# EAGLE library part NPN-DARLINGTON-ARRAY- (library Transistor_2)
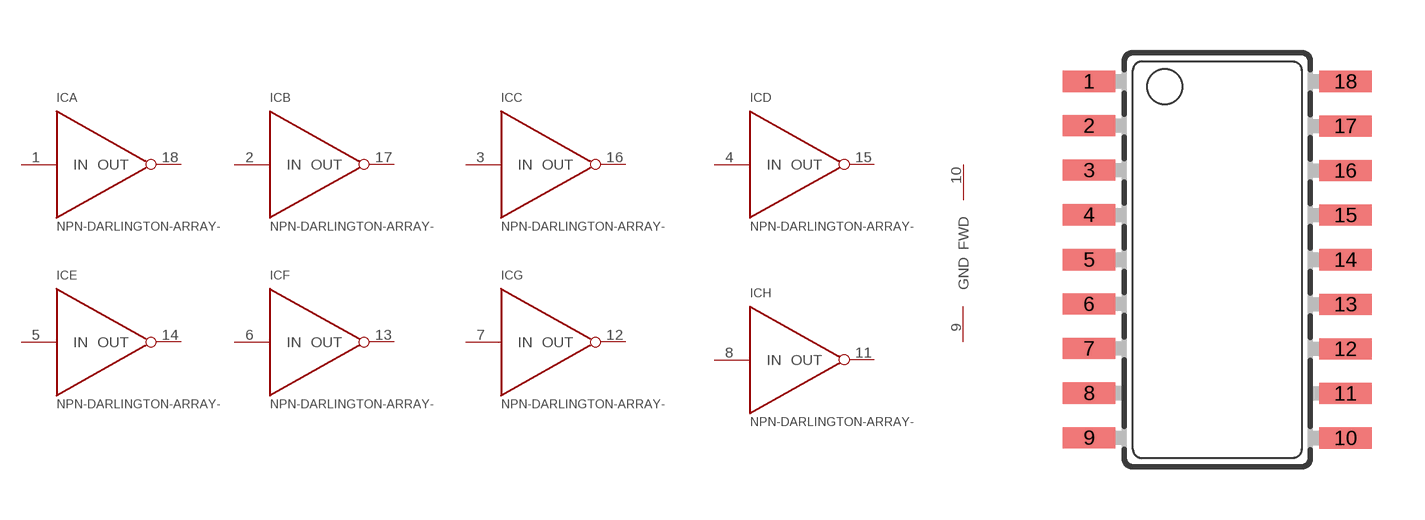
[diagram p0: symbol with the pads of SOP18; footprint SOP18]

Designator prefix IC; gates A=NEGATION B=NEGATION C=NEGATION D=NEGATION E=NEGATION F=NEGATION G=NEGATION H=NEGATION G$1=GND_WHEEL

## NPN-DARLINGTON-ARRAY-ULN2803D  [SOP18]
1  A:IN
2  B:IN
3  C:IN
4  D:IN
5  E:IN
6  F:IN
7  G:IN
8  H:IN
9  G$1:GND
10  G$1:FWD
11  H:OUT
12  G:OUT
13  F:OUT
14  E:OUT
15  D:OUT
16  C:OUT
17  B:OUT
18  A:OUT

## Footprint SOP18 (pad centres in mm)
smd 1.5 x 0.6: 1 -3.65,5.08; 2 -3.65,3.82; 3 -3.65,2.55; 4 -3.65,1.28; 5 -3.65,0; 6 -3.65,-1.26; 7 -3.65,-2.53; 8 -3.65,-3.8; 9 -3.65,-5.07; 10 3.65,-5.08; 11 3.65,-3.81; 12 3.65,-2.54; 13 3.65,-1.27; 14 3.65,0; 15 3.65,1.27; 16 3.65,2.54; 17 3.65,3.81; 18 3.65,5.08